# Altium integrated library Vishay Roederstein Electrolytic Snap-In Pins Capacitor.IntLib: 936 symbols (part 5 of 16)
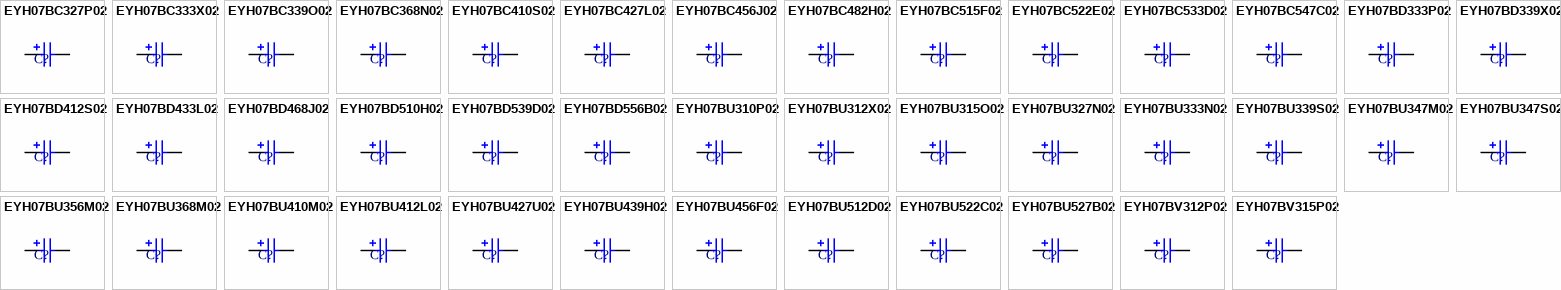
[diagram p27: symbols EYH07BC327P02 to EYH07BV315P02]

## EYH07BC327P02
designator C?
Aluminum Electrolytic Capacitor, Power Capacitor Style EYH, Snap-in 6mm Solder Pins: 270uF, 450V; PCB_Layout: Complies with Manufacturer's Recommendation.; DrillSize: Nominal, Complies with Manufacturer's Recommendation.; Published: 19-Mar-2004; DatasheetDocument: 14-Feb-2002; PackageReference: CAPPRS10-30X45; Publisher: Altium Limited; ComponentLink1Description: Manufacturer Link; ComponentLink1URL: http://www.vishay.com/; ComponentLink2Description: Datasheet; ComponentLink2URL: http://www.vishay.com/docs/25139/eyh.pdf; Value: 270uF
footprint CAPPRS10-30X45 (Capacitor, Electrolytic, Radial, Snap-In Pins; Body 30 x 45 mm (Dia.xH typ); Pin Spacing 10 mm (typ))
simulation model CAP (Capacitor)
signal-integrity model EYH07BC327P02
pins: 1, 2
1 alternate drawing of the same symbol

## EYH07BC333X02
designator C?
Aluminum Electrolytic Capacitor, Power Capacitor Style EYH, Snap-in 6mm Solder Pins: 330uF, 400V; PCB_Layout: Complies with Manufacturer's Recommendation.; DrillSize: Nominal, Complies with Manufacturer's Recommendation.; Published: 19-Mar-2004; DatasheetDocument: 14-Feb-2002; PackageReference: CAPPRS10-30X45; Publisher: Altium Limited; ComponentLink1Description: Manufacturer Link; ComponentLink1URL: http://www.vishay.com/; ComponentLink2Description: Datasheet; ComponentLink2URL: http://www.vishay.com/docs/25139/eyh.pdf; Value: 330uF
footprint CAPPRS10-30X45 (Capacitor, Electrolytic, Radial, Snap-In Pins; Body 30 x 45 mm (Dia.xH typ); Pin Spacing 10 mm (typ))
simulation model CAP (Capacitor)
signal-integrity model EYH07BC333X02
pins: 1, 2
1 alternate drawing of the same symbol

## EYH07BC339O02
designator C?
Aluminum Electrolytic Capacitor, Power Capacitor Style EYH, Snap-in 6mm Solder Pins: 390uF, 350V; PCB_Layout: Complies with Manufacturer's Recommendation.; DrillSize: Nominal, Complies with Manufacturer's Recommendation.; Published: 19-Mar-2004; DatasheetDocument: 14-Feb-2002; PackageReference: CAPPRS10-30X45; Publisher: Altium Limited; ComponentLink1Description: Manufacturer Link; ComponentLink1URL: http://www.vishay.com/; ComponentLink2Description: Datasheet; ComponentLink2URL: http://www.vishay.com/docs/25139/eyh.pdf; Value: 390uF
footprint CAPPRS10-30X45 (Capacitor, Electrolytic, Radial, Snap-In Pins; Body 30 x 45 mm (Dia.xH typ); Pin Spacing 10 mm (typ))
simulation model CAP (Capacitor)
signal-integrity model EYH07BC339O02
pins: 1, 2
1 alternate drawing of the same symbol

## EYH07BC368N02
designator C?
Aluminum Electrolytic Capacitor, Power Capacitor Style EYH, Snap-in 6mm Solder Pins: 680uF, 250V; PCB_Layout: Complies with Manufacturer's Recommendation.; DrillSize: Nominal, Complies with Manufacturer's Recommendation.; Published: 19-Mar-2004; DatasheetDocument: 14-Feb-2002; PackageReference: CAPPRS10-30X45; Publisher: Altium Limited; ComponentLink1Description: Manufacturer Link; ComponentLink1URL: http://www.vishay.com/; ComponentLink2Description: Datasheet; ComponentLink2URL: http://www.vishay.com/docs/25139/eyh.pdf; Value: 680uF
footprint CAPPRS10-30X45 (Capacitor, Electrolytic, Radial, Snap-In Pins; Body 30 x 45 mm (Dia.xH typ); Pin Spacing 10 mm (typ))
simulation model CAP (Capacitor)
signal-integrity model EYH07BC368N02
pins: 1, 2
1 alternate drawing of the same symbol

## EYH07BC410S02
designator C?
Aluminum Electrolytic Capacitor, Power Capacitor Style EYH, Snap-in 6mm Solder Pins: 1000uF, 200V; PCB_Layout: Complies with Manufacturer's Recommendation.; DrillSize: Nominal, Complies with Manufacturer's Recommendation.; Published: 19-Mar-2004; DatasheetDocument: 14-Feb-2002; PackageReference: CAPPRS10-30X45; Publisher: Altium Limited; ComponentLink1Description: Manufacturer Link; ComponentLink1URL: http://www.vishay.com/; ComponentLink2Description: Datasheet; ComponentLink2URL: http://www.vishay.com/docs/25139/eyh.pdf; Value: 1000uF
footprint CAPPRS10-30X45 (Capacitor, Electrolytic, Radial, Snap-In Pins; Body 30 x 45 mm (Dia.xH typ); Pin Spacing 10 mm (typ))
simulation model CAP (Capacitor)
signal-integrity model EYH07BC410S02
pins: 1, 2
1 alternate drawing of the same symbol

## EYH07BC427L02
designator C?
Aluminum Electrolytic Capacitor, Power Capacitor Style EYH, Snap-in 6mm Solder Pins: 2700uF, 100V; PCB_Layout: Complies with Manufacturer's Recommendation.; DrillSize: Nominal, Complies with Manufacturer's Recommendation.; Published: 19-Mar-2004; DatasheetDocument: 14-Feb-2002; PackageReference: CAPPRS10-30X45; Publisher: Altium Limited; ComponentLink1Description: Manufacturer Link; ComponentLink1URL: http://www.vishay.com/; ComponentLink2Description: Datasheet; ComponentLink2URL: http://www.vishay.com/docs/25139/eyh.pdf; Value: 2700uF
footprint CAPPRS10-30X45 (Capacitor, Electrolytic, Radial, Snap-In Pins; Body 30 x 45 mm (Dia.xH typ); Pin Spacing 10 mm (typ))
simulation model CAP (Capacitor)
signal-integrity model EYH07BC427L02
pins: 1, 2
1 alternate drawing of the same symbol

## EYH07BC456J02
designator C?
Aluminum Electrolytic Capacitor, Power Capacitor Style EYH, Snap-in 6mm Solder Pins: 5600uF, 63V; PCB_Layout: Complies with Manufacturer's Recommendation.; DrillSize: Nominal, Complies with Manufacturer's Recommendation.; Published: 19-Mar-2004; DatasheetDocument: 14-Feb-2002; PackageReference: CAPPRS10-30X45; Publisher: Altium Limited; ComponentLink1Description: Manufacturer Link; ComponentLink1URL: http://www.vishay.com/; ComponentLink2Description: Datasheet; ComponentLink2URL: http://www.vishay.com/docs/25139/eyh.pdf; Value: 5600uF
footprint CAPPRS10-30X45 (Capacitor, Electrolytic, Radial, Snap-In Pins; Body 30 x 45 mm (Dia.xH typ); Pin Spacing 10 mm (typ))
simulation model CAP (Capacitor)
signal-integrity model EYH07BC456J02
pins: 1, 2
1 alternate drawing of the same symbol

## EYH07BC482H02
designator C?
Aluminum Electrolytic Capacitor, Power Capacitor Style EYH, Snap-in 6mm Solder Pins: 8200uF, 50V; PCB_Layout: Complies with Manufacturer's Recommendation.; DrillSize: Nominal, Complies with Manufacturer's Recommendation.; Published: 19-Mar-2004; DatasheetDocument: 14-Feb-2002; PackageReference: CAPPRS10-30X45; Publisher: Altium Limited; ComponentLink1Description: Manufacturer Link; ComponentLink1URL: http://www.vishay.com/; ComponentLink2Description: Datasheet; ComponentLink2URL: http://www.vishay.com/docs/25139/eyh.pdf; Value: 8200uF
footprint CAPPRS10-30X45 (Capacitor, Electrolytic, Radial, Snap-In Pins; Body 30 x 45 mm (Dia.xH typ); Pin Spacing 10 mm (typ))
simulation model CAP (Capacitor)
signal-integrity model EYH07BC482H02
pins: 1, 2
1 alternate drawing of the same symbol

## EYH07BC515F02
designator C?
Aluminum Electrolytic Capacitor, Power Capacitor Style EYH, Snap-in 6mm Solder Pins: 15000uF, 35V; PCB_Layout: Complies with Manufacturer's Recommendation.; DrillSize: Nominal, Complies with Manufacturer's Recommendation.; Published: 19-Mar-2004; DatasheetDocument: 14-Feb-2002; PackageReference: CAPPRS10-30X45; Publisher: Altium Limited; ComponentLink1Description: Manufacturer Link; ComponentLink1URL: http://www.vishay.com/; ComponentLink2Description: Datasheet; ComponentLink2URL: http://www.vishay.com/docs/25139/eyh.pdf; Value: 15000uF
footprint CAPPRS10-30X45 (Capacitor, Electrolytic, Radial, Snap-In Pins; Body 30 x 45 mm (Dia.xH typ); Pin Spacing 10 mm (typ))
simulation model CAP (Capacitor)
signal-integrity model EYH07BC515F02
pins: 1, 2
1 alternate drawing of the same symbol

## EYH07BC522E02
designator C?
Aluminum Electrolytic Capacitor, Power Capacitor Style EYH, Snap-in 6mm Solder Pins: 22000uF, 25V; PCB_Layout: Complies with Manufacturer's Recommendation.; DrillSize: Nominal, Complies with Manufacturer's Recommendation.; Published: 19-Mar-2004; DatasheetDocument: 14-Feb-2002; PackageReference: CAPPRS10-30X45; Publisher: Altium Limited; ComponentLink1Description: Manufacturer Link; ComponentLink1URL: http://www.vishay.com/; ComponentLink2Description: Datasheet; ComponentLink2URL: http://www.vishay.com/docs/25139/eyh.pdf; Value: 22000uF
footprint CAPPRS10-30X45 (Capacitor, Electrolytic, Radial, Snap-In Pins; Body 30 x 45 mm (Dia.xH typ); Pin Spacing 10 mm (typ))
simulation model CAP (Capacitor)
signal-integrity model EYH07BC522E02
pins: 1, 2
1 alternate drawing of the same symbol

## EYH07BC533D02
designator C?
Aluminum Electrolytic Capacitor, Power Capacitor Style EYH, Snap-in 6mm Solder Pins: 33000uF, 16V; PCB_Layout: Complies with Manufacturer's Recommendation.; DrillSize: Nominal, Complies with Manufacturer's Recommendation.; Published: 19-Mar-2004; DatasheetDocument: 14-Feb-2002; PackageReference: CAPPRS10-30X45; Publisher: Altium Limited; ComponentLink1Description: Manufacturer Link; ComponentLink1URL: http://www.vishay.com/; ComponentLink2Description: Datasheet; ComponentLink2URL: http://www.vishay.com/docs/25139/eyh.pdf; Value: 33000uF
footprint CAPPRS10-30X45 (Capacitor, Electrolytic, Radial, Snap-In Pins; Body 30 x 45 mm (Dia.xH typ); Pin Spacing 10 mm (typ))
simulation model CAP (Capacitor)
signal-integrity model EYH07BC533D02
pins: 1, 2
1 alternate drawing of the same symbol

## EYH07BC547C02
designator C?
Aluminum Electrolytic Capacitor, Power Capacitor Style EYH, Snap-in 6mm Solder Pins: 47000uF, 10V; PCB_Layout: Complies with Manufacturer's Recommendation.; DrillSize: Nominal, Complies with Manufacturer's Recommendation.; Published: 19-Mar-2004; DatasheetDocument: 14-Feb-2002; PackageReference: CAPPRS10-30X45; Publisher: Altium Limited; ComponentLink1Description: Manufacturer Link; ComponentLink1URL: http://www.vishay.com/; ComponentLink2Description: Datasheet; ComponentLink2URL: http://www.vishay.com/docs/25139/eyh.pdf; Value: 47000uF
footprint CAPPRS10-30X45 (Capacitor, Electrolytic, Radial, Snap-In Pins; Body 30 x 45 mm (Dia.xH typ); Pin Spacing 10 mm (typ))
simulation model CAP (Capacitor)
signal-integrity model EYH07BC547C02
pins: 1, 2
1 alternate drawing of the same symbol

## EYH07BD333P02
designator C?
Aluminum Electrolytic Capacitor, Power Capacitor Style EYH, Snap-in 6mm Solder Pins: 330uF, 450V; PCB_Layout: Complies with Manufacturer's Recommendation.; DrillSize: Nominal, Complies with Manufacturer's Recommendation.; Published: 19-Mar-2004; DatasheetDocument: 14-Feb-2002; PackageReference: CAPPRS10-30X50; Publisher: Altium Limited; ComponentLink1Description: Manufacturer Link; ComponentLink1URL: http://www.vishay.com/; ComponentLink2Description: Datasheet; ComponentLink2URL: http://www.vishay.com/docs/25139/eyh.pdf; Value: 330uF
footprint CAPPRS10-30X50 (Capacitor, Electrolytic, Radial, Snap-In Pins; Body 30 x 50 mm (Dia.xH typ); Pin Spacing 10 mm (typ))
simulation model CAP (Capacitor)
signal-integrity model EYH07BD333P02
pins: 1, 2
1 alternate drawing of the same symbol

## EYH07BD339X02
designator C?
Aluminum Electrolytic Capacitor, Power Capacitor Style EYH, Snap-in 6mm Solder Pins: 390uF, 400V; PCB_Layout: Complies with Manufacturer's Recommendation.; DrillSize: Nominal, Complies with Manufacturer's Recommendation.; Published: 19-Mar-2004; DatasheetDocument: 14-Feb-2002; PackageReference: CAPPRS10-30X50; Publisher: Altium Limited; ComponentLink1Description: Manufacturer Link; ComponentLink1URL: http://www.vishay.com/; ComponentLink2Description: Datasheet; ComponentLink2URL: http://www.vishay.com/docs/25139/eyh.pdf; Value: 390uF
footprint CAPPRS10-30X50 (Capacitor, Electrolytic, Radial, Snap-In Pins; Body 30 x 50 mm (Dia.xH typ); Pin Spacing 10 mm (typ))
simulation model CAP (Capacitor)
signal-integrity model EYH07BD339X02
pins: 1, 2
1 alternate drawing of the same symbol

## EYH07BD412S02
designator C?
Aluminum Electrolytic Capacitor, Power Capacitor Style EYH, Snap-in 6mm Solder Pins: 1200uF, 200V; PCB_Layout: Complies with Manufacturer's Recommendation.; DrillSize: Nominal, Complies with Manufacturer's Recommendation.; Published: 19-Mar-2004; DatasheetDocument: 14-Feb-2002; PackageReference: CAPPRS10-30X50; Publisher: Altium Limited; ComponentLink1Description: Manufacturer Link; ComponentLink1URL: http://www.vishay.com/; ComponentLink2Description: Datasheet; ComponentLink2URL: http://www.vishay.com/docs/25139/eyh.pdf; Value: 1200uF
footprint CAPPRS10-30X50 (Capacitor, Electrolytic, Radial, Snap-In Pins; Body 30 x 50 mm (Dia.xH typ); Pin Spacing 10 mm (typ))
simulation model CAP (Capacitor)
signal-integrity model EYH07BD412S02
pins: 1, 2
1 alternate drawing of the same symbol

## EYH07BD433L02
designator C?
Aluminum Electrolytic Capacitor, Power Capacitor Style EYH, Snap-in 6mm Solder Pins: 3300uF, 100V; PCB_Layout: Complies with Manufacturer's Recommendation.; DrillSize: Nominal, Complies with Manufacturer's Recommendation.; Published: 19-Mar-2004; DatasheetDocument: 14-Feb-2002; PackageReference: CAPPRS10-30X50; Publisher: Altium Limited; ComponentLink1Description: Manufacturer Link; ComponentLink1URL: http://www.vishay.com/; ComponentLink2Description: Datasheet; ComponentLink2URL: http://www.vishay.com/docs/25139/eyh.pdf; Value: 3300uF
footprint CAPPRS10-30X50 (Capacitor, Electrolytic, Radial, Snap-In Pins; Body 30 x 50 mm (Dia.xH typ); Pin Spacing 10 mm (typ))
simulation model CAP (Capacitor)
signal-integrity model EYH07BD433L02
pins: 1, 2
1 alternate drawing of the same symbol

## EYH07BD468J02
designator C?
Aluminum Electrolytic Capacitor, Power Capacitor Style EYH, Snap-in 6mm Solder Pins: 6800uF, 63V; PCB_Layout: Complies with Manufacturer's Recommendation.; DrillSize: Nominal, Complies with Manufacturer's Recommendation.; Published: 19-Mar-2004; DatasheetDocument: 14-Feb-2002; PackageReference: CAPPRS10-30X50; Publisher: Altium Limited; ComponentLink1Description: Manufacturer Link; ComponentLink1URL: http://www.vishay.com/; ComponentLink2Description: Datasheet; ComponentLink2URL: http://www.vishay.com/docs/25139/eyh.pdf; Value: 6800uF
footprint CAPPRS10-30X50 (Capacitor, Electrolytic, Radial, Snap-In Pins; Body 30 x 50 mm (Dia.xH typ); Pin Spacing 10 mm (typ))
simulation model CAP (Capacitor)
signal-integrity model EYH07BD468J02
pins: 1, 2
1 alternate drawing of the same symbol

## EYH07BD510H02
designator C?
Aluminum Electrolytic Capacitor, Power Capacitor Style EYH, Snap-in 6mm Solder Pins: 10000uF, 50V; PCB_Layout: Complies with Manufacturer's Recommendation.; DrillSize: Nominal, Complies with Manufacturer's Recommendation.; Published: 19-Mar-2004; DatasheetDocument: 14-Feb-2002; PackageReference: CAPPRS10-30X50; Publisher: Altium Limited; ComponentLink1Description: Manufacturer Link; ComponentLink1URL: http://www.vishay.com/; ComponentLink2Description: Datasheet; ComponentLink2URL: http://www.vishay.com/docs/25139/eyh.pdf; Value: 10000uF
footprint CAPPRS10-30X50 (Capacitor, Electrolytic, Radial, Snap-In Pins; Body 30 x 50 mm (Dia.xH typ); Pin Spacing 10 mm (typ))
simulation model CAP (Capacitor)
signal-integrity model EYH07BD510H02
pins: 1, 2
1 alternate drawing of the same symbol

## EYH07BD539D02
designator C?
Aluminum Electrolytic Capacitor, Power Capacitor Style EYH, Snap-in 6mm Solder Pins: 39000uF, 16V; PCB_Layout: Complies with Manufacturer's Recommendation.; DrillSize: Nominal, Complies with Manufacturer's Recommendation.; Published: 19-Mar-2004; DatasheetDocument: 14-Feb-2002; PackageReference: CAPPRS10-30X50; Publisher: Altium Limited; ComponentLink1Description: Manufacturer Link; ComponentLink1URL: http://www.vishay.com/; ComponentLink2Description: Datasheet; ComponentLink2URL: http://www.vishay.com/docs/25139/eyh.pdf; Value: 39000uF
footprint CAPPRS10-30X50 (Capacitor, Electrolytic, Radial, Snap-In Pins; Body 30 x 50 mm (Dia.xH typ); Pin Spacing 10 mm (typ))
simulation model CAP (Capacitor)
signal-integrity model EYH07BD539D02
pins: 1, 2
1 alternate drawing of the same symbol

## EYH07BD556B02
designator C?
Aluminum Electrolytic Capacitor, Power Capacitor Style EYH, Snap-in 6mm Solder Pins: 56000uF, 6.3V; PCB_Layout: Complies with Manufacturer's Recommendation.; DrillSize: Nominal, Complies with Manufacturer's Recommendation.; Published: 19-Mar-2004; DatasheetDocument: 14-Feb-2002; PackageReference: CAPPRS10-30X50; Publisher: Altium Limited; ComponentLink1Description: Manufacturer Link; ComponentLink1URL: http://www.vishay.com/; ComponentLink2Description: Datasheet; ComponentLink2URL: http://www.vishay.com/docs/25139/eyh.pdf; Value: 56000uF
footprint CAPPRS10-30X50 (Capacitor, Electrolytic, Radial, Snap-In Pins; Body 30 x 50 mm (Dia.xH typ); Pin Spacing 10 mm (typ))
simulation model CAP (Capacitor)
signal-integrity model EYH07BD556B02
pins: 1, 2
1 alternate drawing of the same symbol

## EYH07BU310P02
designator C?
Aluminum Electrolytic Capacitor, Power Capacitor Style EYH, Snap-in 6mm Solder Pins: 100uF, 450V; PCB_Layout: Complies with Manufacturer's Recommendation.; DrillSize: Nominal, Complies with Manufacturer's Recommendation.; Published: 19-Mar-2004; DatasheetDocument: 14-Feb-2002; PackageReference: CAPPRS10-30X25; Publisher: Altium Limited; ComponentLink1Description: Manufacturer Link; ComponentLink1URL: http://www.vishay.com/; ComponentLink2Description: Datasheet; ComponentLink2URL: http://www.vishay.com/docs/25139/eyh.pdf; Value: 100uF
footprint CAPPRS10-30X25 (Capacitor, Electrolytic, Radial, Snap-In Pins; Body 30 x 25 mm (Dia.xH typ); Pin Spacing 10 mm (typ))
simulation model CAP (Capacitor)
signal-integrity model EYH07BU310P02
pins: 1, 2
1 alternate drawing of the same symbol

## EYH07BU312X02
designator C?
Aluminum Electrolytic Capacitor, Power Capacitor Style EYH, Snap-in 6mm Solder Pins: 120uF, 400V; PCB_Layout: Complies with Manufacturer's Recommendation.; DrillSize: Nominal, Complies with Manufacturer's Recommendation.; Published: 19-Mar-2004; DatasheetDocument: 14-Feb-2002; PackageReference: CAPPRS10-30X25; Publisher: Altium Limited; ComponentLink1Description: Manufacturer Link; ComponentLink1URL: http://www.vishay.com/; ComponentLink2Description: Datasheet; ComponentLink2URL: http://www.vishay.com/docs/25139/eyh.pdf; Value: 120uF
footprint CAPPRS10-30X25 (Capacitor, Electrolytic, Radial, Snap-In Pins; Body 30 x 25 mm (Dia.xH typ); Pin Spacing 10 mm (typ))
simulation model CAP (Capacitor)
signal-integrity model EYH07BU312X02
pins: 1, 2
1 alternate drawing of the same symbol

## EYH07BU315O02
designator C?
Aluminum Electrolytic Capacitor, Power Capacitor Style EYH, Snap-in 6mm Solder Pins: 150uF, 350V; PCB_Layout: Complies with Manufacturer's Recommendation.; DrillSize: Nominal, Complies with Manufacturer's Recommendation.; Published: 19-Mar-2004; DatasheetDocument: 14-Feb-2002; PackageReference: CAPPRS10-30X25; Publisher: Altium Limited; ComponentLink1Description: Manufacturer Link; ComponentLink1URL: http://www.vishay.com/; ComponentLink2Description: Datasheet; ComponentLink2URL: http://www.vishay.com/docs/25139/eyh.pdf; Value: 150uF
footprint CAPPRS10-30X25 (Capacitor, Electrolytic, Radial, Snap-In Pins; Body 30 x 25 mm (Dia.xH typ); Pin Spacing 10 mm (typ))
simulation model CAP (Capacitor)
signal-integrity model EYH07BU315O02
pins: 1, 2
1 alternate drawing of the same symbol

## EYH07BU327N02
designator C?
Aluminum Electrolytic Capacitor, Power Capacitor Style EYH, Snap-in 6mm Solder Pins: 270uF, 250V; PCB_Layout: Complies with Manufacturer's Recommendation.; DrillSize: Nominal, Complies with Manufacturer's Recommendation.; Published: 19-Mar-2004; DatasheetDocument: 14-Feb-2002; PackageReference: CAPPRS10-30X25; Publisher: Altium Limited; ComponentLink1Description: Manufacturer Link; ComponentLink1URL: http://www.vishay.com/; ComponentLink2Description: Datasheet; ComponentLink2URL: http://www.vishay.com/docs/25139/eyh.pdf; Value: 270uF
footprint CAPPRS10-30X25 (Capacitor, Electrolytic, Radial, Snap-In Pins; Body 30 x 25 mm (Dia.xH typ); Pin Spacing 10 mm (typ))
simulation model CAP (Capacitor)
signal-integrity model EYH07BU327N02
pins: 1, 2
1 alternate drawing of the same symbol

## EYH07BU333N02
designator C?
Aluminum Electrolytic Capacitor, Power Capacitor Style EYH, Snap-in 6mm Solder Pins: 330uF, 250V; PCB_Layout: Complies with Manufacturer's Recommendation.; DrillSize: Nominal, Complies with Manufacturer's Recommendation.; Published: 19-Mar-2004; DatasheetDocument: 14-Feb-2002; PackageReference: CAPPRS10-30X25; Publisher: Altium Limited; ComponentLink1Description: Manufacturer Link; ComponentLink1URL: http://www.vishay.com/; ComponentLink2Description: Datasheet; ComponentLink2URL: http://www.vishay.com/docs/25139/eyh.pdf; Value: 330uF
footprint CAPPRS10-30X25 (Capacitor, Electrolytic, Radial, Snap-In Pins; Body 30 x 25 mm (Dia.xH typ); Pin Spacing 10 mm (typ))
simulation model CAP (Capacitor)
signal-integrity model EYH07BU333N02
pins: 1, 2
1 alternate drawing of the same symbol

## EYH07BU339S02
designator C?
Aluminum Electrolytic Capacitor, Power Capacitor Style EYH, Snap-in 6mm Solder Pins: 390uF, 200V; PCB_Layout: Complies with Manufacturer's Recommendation.; DrillSize: Nominal, Complies with Manufacturer's Recommendation.; Published: 19-Mar-2004; DatasheetDocument: 14-Feb-2002; PackageReference: CAPPRS10-30X25; Publisher: Altium Limited; ComponentLink1Description: Manufacturer Link; ComponentLink1URL: http://www.vishay.com/; ComponentLink2Description: Datasheet; ComponentLink2URL: http://www.vishay.com/docs/25139/eyh.pdf; Value: 390uF
footprint CAPPRS10-30X25 (Capacitor, Electrolytic, Radial, Snap-In Pins; Body 30 x 25 mm (Dia.xH typ); Pin Spacing 10 mm (typ))
simulation model CAP (Capacitor)
signal-integrity model EYH07BU339S02
pins: 1, 2
1 alternate drawing of the same symbol

## EYH07BU347M02
designator C?
Aluminum Electrolytic Capacitor, Power Capacitor Style EYH, Snap-in 6mm Solder Pins: 470uF, 160V; PCB_Layout: Complies with Manufacturer's Recommendation.; DrillSize: Nominal, Complies with Manufacturer's Recommendation.; Published: 19-Mar-2004; DatasheetDocument: 14-Feb-2002; PackageReference: CAPPRS10-30X25; Publisher: Altium Limited; ComponentLink1Description: Manufacturer Link; ComponentLink1URL: http://www.vishay.com/; ComponentLink2Description: Datasheet; ComponentLink2URL: http://www.vishay.com/docs/25139/eyh.pdf; Value: 470uF
footprint CAPPRS10-30X25 (Capacitor, Electrolytic, Radial, Snap-In Pins; Body 30 x 25 mm (Dia.xH typ); Pin Spacing 10 mm (typ))
simulation model CAP (Capacitor)
signal-integrity model EYH07BU347M02
pins: 1, 2
1 alternate drawing of the same symbol

## EYH07BU347S02
designator C?
Aluminum Electrolytic Capacitor, Power Capacitor Style EYH, Snap-in 6mm Solder Pins: 470uF, 200V; PCB_Layout: Complies with Manufacturer's Recommendation.; DrillSize: Nominal, Complies with Manufacturer's Recommendation.; Published: 19-Mar-2004; DatasheetDocument: 14-Feb-2002; PackageReference: CAPPRS10-30X25; Publisher: Altium Limited; ComponentLink1Description: Manufacturer Link; ComponentLink1URL: http://www.vishay.com/; ComponentLink2Description: Datasheet; ComponentLink2URL: http://www.vishay.com/docs/25139/eyh.pdf; Value: 470uF
footprint CAPPRS10-30X25 (Capacitor, Electrolytic, Radial, Snap-In Pins; Body 30 x 25 mm (Dia.xH typ); Pin Spacing 10 mm (typ))
simulation model CAP (Capacitor)
signal-integrity model EYH07BU347S02
pins: 1, 2
1 alternate drawing of the same symbol

## EYH07BU356M02
designator C?
Aluminum Electrolytic Capacitor, Power Capacitor Style EYH, Snap-in 6mm Solder Pins: 560uF, 160V; PCB_Layout: Complies with Manufacturer's Recommendation.; DrillSize: Nominal, Complies with Manufacturer's Recommendation.; Published: 19-Mar-2004; DatasheetDocument: 14-Feb-2002; PackageReference: CAPPRS10-30X25; Publisher: Altium Limited; ComponentLink1Description: Manufacturer Link; ComponentLink1URL: http://www.vishay.com/; ComponentLink2Description: Datasheet; ComponentLink2URL: http://www.vishay.com/docs/25139/eyh.pdf; Value: 560uF
footprint CAPPRS10-30X25 (Capacitor, Electrolytic, Radial, Snap-In Pins; Body 30 x 25 mm (Dia.xH typ); Pin Spacing 10 mm (typ))
simulation model CAP (Capacitor)
signal-integrity model EYH07BU356M02
pins: 1, 2
1 alternate drawing of the same symbol

## EYH07BU368M02
designator C?
Aluminum Electrolytic Capacitor, Power Capacitor Style EYH, Snap-in 6mm Solder Pins: 680uF, 160V; PCB_Layout: Complies with Manufacturer's Recommendation.; DrillSize: Nominal, Complies with Manufacturer's Recommendation.; Published: 19-Mar-2004; DatasheetDocument: 14-Feb-2002; PackageReference: CAPPRS10-30X25; Publisher: Altium Limited; ComponentLink1Description: Manufacturer Link; ComponentLink1URL: http://www.vishay.com/; ComponentLink2Description: Datasheet; ComponentLink2URL: http://www.vishay.com/docs/25139/eyh.pdf; Value: 680uF
footprint CAPPRS10-30X25 (Capacitor, Electrolytic, Radial, Snap-In Pins; Body 30 x 25 mm (Dia.xH typ); Pin Spacing 10 mm (typ))
simulation model CAP (Capacitor)
signal-integrity model EYH07BU368M02
pins: 1, 2
1 alternate drawing of the same symbol

## EYH07BU410M02
designator C?
Aluminum Electrolytic Capacitor, Power Capacitor Style EYH, Snap-in 6mm Solder Pins: 1000uF, 160V; PCB_Layout: Complies with Manufacturer's Recommendation.; DrillSize: Nominal, Complies with Manufacturer's Recommendation.; Published: 19-Mar-2004; DatasheetDocument: 14-Feb-2002; PackageReference: CAPPRS10-30X25; Publisher: Altium Limited; ComponentLink1Description: Manufacturer Link; ComponentLink1URL: http://www.vishay.com/; ComponentLink2Description: Datasheet; ComponentLink2URL: http://www.vishay.com/docs/25139/eyh.pdf; Value: 1000uF
footprint CAPPRS10-30X25 (Capacitor, Electrolytic, Radial, Snap-In Pins; Body 30 x 25 mm (Dia.xH typ); Pin Spacing 10 mm (typ))
simulation model CAP (Capacitor)
signal-integrity model EYH07BU410M02
pins: 1, 2
1 alternate drawing of the same symbol

## EYH07BU412L02
designator C?
Aluminum Electrolytic Capacitor, Power Capacitor Style EYH, Snap-in 6mm Solder Pins: 1200uF, 100V; PCB_Layout: Complies with Manufacturer's Recommendation.; DrillSize: Nominal, Complies with Manufacturer's Recommendation.; Published: 19-Mar-2004; DatasheetDocument: 14-Feb-2002; PackageReference: CAPPRS10-30X25; Publisher: Altium Limited; ComponentLink1Description: Manufacturer Link; ComponentLink1URL: http://www.vishay.com/; ComponentLink2Description: Datasheet; ComponentLink2URL: http://www.vishay.com/docs/25139/eyh.pdf; Value: 1200uF
footprint CAPPRS10-30X25 (Capacitor, Electrolytic, Radial, Snap-In Pins; Body 30 x 25 mm (Dia.xH typ); Pin Spacing 10 mm (typ))
simulation model CAP (Capacitor)
signal-integrity model EYH07BU412L02
pins: 1, 2
1 alternate drawing of the same symbol

## EYH07BU427U02
designator C?
Aluminum Electrolytic Capacitor, Power Capacitor Style EYH, Snap-in 6mm Solder Pins: 2700uF, 63V; PCB_Layout: Complies with Manufacturer's Recommendation.; DrillSize: Nominal, Complies with Manufacturer's Recommendation.; Published: 19-Mar-2004; DatasheetDocument: 14-Feb-2002; PackageReference: CAPPRS10-30X25; Publisher: Altium Limited; ComponentLink1Description: Manufacturer Link; ComponentLink1URL: http://www.vishay.com/; ComponentLink2Description: Datasheet; ComponentLink2URL: http://www.vishay.com/docs/25139/eyh.pdf; Value: 2700uF
footprint CAPPRS10-30X25 (Capacitor, Electrolytic, Radial, Snap-In Pins; Body 30 x 25 mm (Dia.xH typ); Pin Spacing 10 mm (typ))
simulation model CAP (Capacitor)
signal-integrity model EYH07BU427U02
pins: 1, 2
1 alternate drawing of the same symbol

## EYH07BU439H02
designator C?
Aluminum Electrolytic Capacitor, Power Capacitor Style EYH, Snap-in 6mm Solder Pins: 3900uF, 50V; PCB_Layout: Complies with Manufacturer's Recommendation.; DrillSize: Nominal, Complies with Manufacturer's Recommendation.; Published: 19-Mar-2004; DatasheetDocument: 14-Feb-2002; PackageReference: CAPPRS10-30X25; Publisher: Altium Limited; ComponentLink1Description: Manufacturer Link; ComponentLink1URL: http://www.vishay.com/; ComponentLink2Description: Datasheet; ComponentLink2URL: http://www.vishay.com/docs/25139/eyh.pdf; Value: 3900uF
footprint CAPPRS10-30X25 (Capacitor, Electrolytic, Radial, Snap-In Pins; Body 30 x 25 mm (Dia.xH typ); Pin Spacing 10 mm (typ))
simulation model CAP (Capacitor)
signal-integrity model EYH07BU439H02
pins: 1, 2
1 alternate drawing of the same symbol

## EYH07BU456F02
designator C?
Aluminum Electrolytic Capacitor, Power Capacitor Style EYH, Snap-in 6mm Solder Pins: 5600uF, 35V; PCB_Layout: Complies with Manufacturer's Recommendation.; DrillSize: Nominal, Complies with Manufacturer's Recommendation.; Published: 19-Mar-2004; DatasheetDocument: 14-Feb-2002; PackageReference: CAPPRS10-30X25; Publisher: Altium Limited; ComponentLink1Description: Manufacturer Link; ComponentLink1URL: http://www.vishay.com/; ComponentLink2Description: Datasheet; ComponentLink2URL: http://www.vishay.com/docs/25139/eyh.pdf; Value: 5600uF
footprint CAPPRS10-30X25 (Capacitor, Electrolytic, Radial, Snap-In Pins; Body 30 x 25 mm (Dia.xH typ); Pin Spacing 10 mm (typ))
simulation model CAP (Capacitor)
signal-integrity model EYH07BU456F02
pins: 1, 2
1 alternate drawing of the same symbol

## EYH07BU512D02
designator C?
Aluminum Electrolytic Capacitor, Power Capacitor Style EYH, Snap-in 6mm Solder Pins: 12000uF, 16V; PCB_Layout: Complies with Manufacturer's Recommendation.; DrillSize: Nominal, Complies with Manufacturer's Recommendation.; Published: 19-Mar-2004; DatasheetDocument: 14-Feb-2002; PackageReference: CAPPRS10-30X25; Publisher: Altium Limited; ComponentLink1Description: Manufacturer Link; ComponentLink1URL: http://www.vishay.com/; ComponentLink2Description: Datasheet; ComponentLink2URL: http://www.vishay.com/docs/25139/eyh.pdf; Value: 12000uF
footprint CAPPRS10-30X25 (Capacitor, Electrolytic, Radial, Snap-In Pins; Body 30 x 25 mm (Dia.xH typ); Pin Spacing 10 mm (typ))
simulation model CAP (Capacitor)
signal-integrity model EYH07BU512D02
pins: 1, 2
1 alternate drawing of the same symbol

## EYH07BU522C02
designator C?
Aluminum Electrolytic Capacitor, Power Capacitor Style EYH, Snap-in 6mm Solder Pins: 22000uF, 10V; PCB_Layout: Complies with Manufacturer's Recommendation.; DrillSize: Nominal, Complies with Manufacturer's Recommendation.; Published: 19-Mar-2004; DatasheetDocument: 14-Feb-2002; PackageReference: CAPPRS10-30X25; Publisher: Altium Limited; ComponentLink1Description: Manufacturer Link; ComponentLink1URL: http://www.vishay.com/; ComponentLink2Description: Datasheet; ComponentLink2URL: http://www.vishay.com/docs/25139/eyh.pdf; Value: 22000uF
footprint CAPPRS10-30X25 (Capacitor, Electrolytic, Radial, Snap-In Pins; Body 30 x 25 mm (Dia.xH typ); Pin Spacing 10 mm (typ))
simulation model CAP (Capacitor)
signal-integrity model EYH07BU522C02
pins: 1, 2
1 alternate drawing of the same symbol

## EYH07BU527B02
designator C?
Aluminum Electrolytic Capacitor, Power Capacitor Style EYH, Snap-in 6mm Solder Pins: 27000uF, 6.3V; PCB_Layout: Complies with Manufacturer's Recommendation.; DrillSize: Nominal, Complies with Manufacturer's Recommendation.; Published: 19-Mar-2004; DatasheetDocument: 14-Feb-2002; PackageReference: CAPPRS10-30X25; Publisher: Altium Limited; ComponentLink1Description: Manufacturer Link; ComponentLink1URL: http://www.vishay.com/; ComponentLink2Description: Datasheet; ComponentLink2URL: http://www.vishay.com/docs/25139/eyh.pdf; Value: 27000uF
footprint CAPPRS10-30X25 (Capacitor, Electrolytic, Radial, Snap-In Pins; Body 30 x 25 mm (Dia.xH typ); Pin Spacing 10 mm (typ))
simulation model CAP (Capacitor)
signal-integrity model EYH07BU527B02
pins: 1, 2
1 alternate drawing of the same symbol

## EYH07BV312P02
designator C?
Aluminum Electrolytic Capacitor, Power Capacitor Style EYH, Snap-in 6mm Solder Pins: 120uF, 450V; PCB_Layout: Complies with Manufacturer's Recommendation.; DrillSize: Nominal, Complies with Manufacturer's Recommendation.; Published: 19-Mar-2004; DatasheetDocument: 14-Feb-2002; PackageReference: CAPPRS10-30X30; Publisher: Altium Limited; ComponentLink1Description: Manufacturer Link; ComponentLink1URL: http://www.vishay.com/; ComponentLink2Description: Datasheet; ComponentLink2URL: http://www.vishay.com/docs/25139/eyh.pdf; Value: 120uF
footprint CAPPRS10-30X30 (Capacitor, Electrolytic, Radial, Snap-In Pins; Body 30 x 30 mm (Dia.xH typ); Pin Spacing 10 mm (typ))
simulation model CAP (Capacitor)
signal-integrity model EYH07BV312P02
pins: 1, 2
1 alternate drawing of the same symbol

## EYH07BV315P02
designator C?
Aluminum Electrolytic Capacitor, Power Capacitor Style EYH, Snap-in 6mm Solder Pins: 150uF, 450V; PCB_Layout: Complies with Manufacturer's Recommendation.; DrillSize: Nominal, Complies with Manufacturer's Recommendation.; Published: 19-Mar-2004; DatasheetDocument: 14-Feb-2002; PackageReference: CAPPRS10-30X30; Publisher: Altium Limited; ComponentLink1Description: Manufacturer Link; ComponentLink1URL: http://www.vishay.com/; ComponentLink2Description: Datasheet; ComponentLink2URL: http://www.vishay.com/docs/25139/eyh.pdf; Value: 150uF
footprint CAPPRS10-30X30 (Capacitor, Electrolytic, Radial, Snap-In Pins; Body 30 x 30 mm (Dia.xH typ); Pin Spacing 10 mm (typ))
simulation model CAP (Capacitor)
signal-integrity model EYH07BV315P02
pins: 1, 2
1 alternate drawing of the same symbol

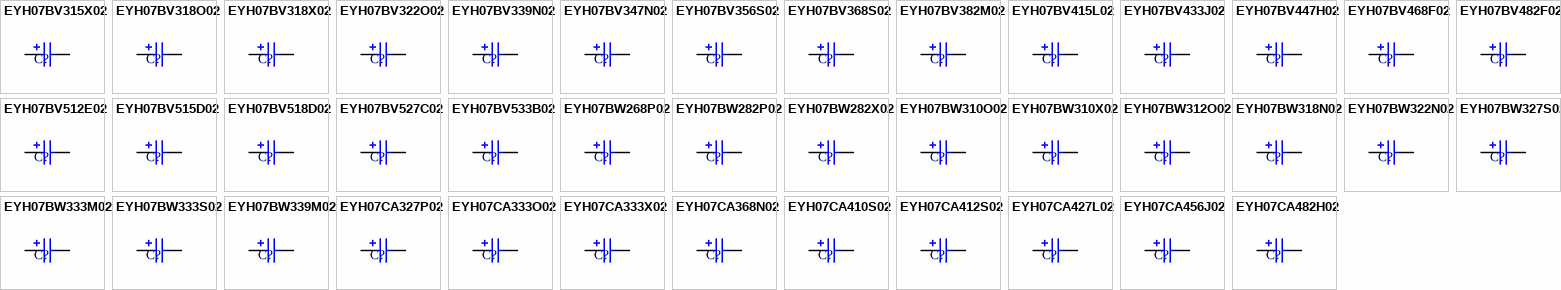
[diagram p7: symbols EYH07BV315X02 to EYH07CA482H02]

## EYH07BV315X02
designator C?
Aluminum Electrolytic Capacitor, Power Capacitor Style EYH, Snap-in 6mm Solder Pins: 150uF, 400V; PCB_Layout: Complies with Manufacturer's Recommendation.; DrillSize: Nominal, Complies with Manufacturer's Recommendation.; Published: 19-Mar-2004; DatasheetDocument: 14-Feb-2002; PackageReference: CAPPRS10-30X30; Publisher: Altium Limited; ComponentLink1Description: Manufacturer Link; ComponentLink1URL: http://www.vishay.com/; ComponentLink2Description: Datasheet; ComponentLink2URL: http://www.vishay.com/docs/25139/eyh.pdf; Value: 150uF
footprint CAPPRS10-30X30 (Capacitor, Electrolytic, Radial, Snap-In Pins; Body 30 x 30 mm (Dia.xH typ); Pin Spacing 10 mm (typ))
simulation model CAP (Capacitor)
signal-integrity model EYH07BV315X02
pins: 1, 2
1 alternate drawing of the same symbol

## EYH07BV318O02
designator C?
Aluminum Electrolytic Capacitor, Power Capacitor Style EYH, Snap-in 6mm Solder Pins: 180uF, 350V; PCB_Layout: Complies with Manufacturer's Recommendation.; DrillSize: Nominal, Complies with Manufacturer's Recommendation.; Published: 19-Mar-2004; DatasheetDocument: 14-Feb-2002; PackageReference: CAPPRS10-30X30; Publisher: Altium Limited; ComponentLink1Description: Manufacturer Link; ComponentLink1URL: http://www.vishay.com/; ComponentLink2Description: Datasheet; ComponentLink2URL: http://www.vishay.com/docs/25139/eyh.pdf; Value: 180uF
footprint CAPPRS10-30X30 (Capacitor, Electrolytic, Radial, Snap-In Pins; Body 30 x 30 mm (Dia.xH typ); Pin Spacing 10 mm (typ))
simulation model CAP (Capacitor)
signal-integrity model EYH07BV318O02
pins: 1, 2
1 alternate drawing of the same symbol

## EYH07BV318X02
designator C?
Aluminum Electrolytic Capacitor, Power Capacitor Style EYH, Snap-in 6mm Solder Pins: 180uF, 400V; PCB_Layout: Complies with Manufacturer's Recommendation.; DrillSize: Nominal, Complies with Manufacturer's Recommendation.; Published: 19-Mar-2004; DatasheetDocument: 14-Feb-2002; PackageReference: CAPPRS10-30X30; Publisher: Altium Limited; ComponentLink1Description: Manufacturer Link; ComponentLink1URL: http://www.vishay.com/; ComponentLink2Description: Datasheet; ComponentLink2URL: http://www.vishay.com/docs/25139/eyh.pdf; Value: 180uF
footprint CAPPRS10-30X30 (Capacitor, Electrolytic, Radial, Snap-In Pins; Body 30 x 30 mm (Dia.xH typ); Pin Spacing 10 mm (typ))
simulation model CAP (Capacitor)
signal-integrity model EYH07BV318X02
pins: 1, 2
1 alternate drawing of the same symbol

## EYH07BV322O02
designator C?
Aluminum Electrolytic Capacitor, Power Capacitor Style EYH, Snap-in 6mm Solder Pins: 220uF, 350V; PCB_Layout: Complies with Manufacturer's Recommendation.; DrillSize: Nominal, Complies with Manufacturer's Recommendation.; Published: 19-Mar-2004; DatasheetDocument: 14-Feb-2002; PackageReference: CAPPRS10-30X30; Publisher: Altium Limited; ComponentLink1Description: Manufacturer Link; ComponentLink1URL: http://www.vishay.com/; ComponentLink2Description: Datasheet; ComponentLink2URL: http://www.vishay.com/docs/25139/eyh.pdf; Value: 220uF
footprint CAPPRS10-30X30 (Capacitor, Electrolytic, Radial, Snap-In Pins; Body 30 x 30 mm (Dia.xH typ); Pin Spacing 10 mm (typ))
simulation model CAP (Capacitor)
signal-integrity model EYH07BV322O02
pins: 1, 2
1 alternate drawing of the same symbol

## EYH07BV339N02
designator C?
Aluminum Electrolytic Capacitor, Power Capacitor Style EYH, Snap-in 6mm Solder Pins: 390uF, 250V; PCB_Layout: Complies with Manufacturer's Recommendation.; DrillSize: Nominal, Complies with Manufacturer's Recommendation.; Published: 19-Mar-2004; DatasheetDocument: 14-Feb-2002; PackageReference: CAPPRS10-30X30; Publisher: Altium Limited; ComponentLink1Description: Manufacturer Link; ComponentLink1URL: http://www.vishay.com/; ComponentLink2Description: Datasheet; ComponentLink2URL: http://www.vishay.com/docs/25139/eyh.pdf; Value: 390uF
footprint CAPPRS10-30X30 (Capacitor, Electrolytic, Radial, Snap-In Pins; Body 30 x 30 mm (Dia.xH typ); Pin Spacing 10 mm (typ))
simulation model CAP (Capacitor)
signal-integrity model EYH07BV339N02
pins: 1, 2
1 alternate drawing of the same symbol

## EYH07BV347N02
designator C?
Aluminum Electrolytic Capacitor, Power Capacitor Style EYH, Snap-in 6mm Solder Pins: 470uF, 250V; PCB_Layout: Complies with Manufacturer's Recommendation.; DrillSize: Nominal, Complies with Manufacturer's Recommendation.; Published: 19-Mar-2004; DatasheetDocument: 14-Feb-2002; PackageReference: CAPPRS10-30X30; Publisher: Altium Limited; ComponentLink1Description: Manufacturer Link; ComponentLink1URL: http://www.vishay.com/; ComponentLink2Description: Datasheet; ComponentLink2URL: http://www.vishay.com/docs/25139/eyh.pdf; Value: 470uF
footprint CAPPRS10-30X30 (Capacitor, Electrolytic, Radial, Snap-In Pins; Body 30 x 30 mm (Dia.xH typ); Pin Spacing 10 mm (typ))
simulation model CAP (Capacitor)
signal-integrity model EYH07BV347N02
pins: 1, 2
1 alternate drawing of the same symbol

## EYH07BV356S02
designator C?
Aluminum Electrolytic Capacitor, Power Capacitor Style EYH, Snap-in 6mm Solder Pins: 560uF, 200V; PCB_Layout: Complies with Manufacturer's Recommendation.; DrillSize: Nominal, Complies with Manufacturer's Recommendation.; Published: 19-Mar-2004; DatasheetDocument: 14-Feb-2002; PackageReference: CAPPRS10-30X30; Publisher: Altium Limited; ComponentLink1Description: Manufacturer Link; ComponentLink1URL: http://www.vishay.com/; ComponentLink2Description: Datasheet; ComponentLink2URL: http://www.vishay.com/docs/25139/eyh.pdf; Value: 560uF
footprint CAPPRS10-30X30 (Capacitor, Electrolytic, Radial, Snap-In Pins; Body 30 x 30 mm (Dia.xH typ); Pin Spacing 10 mm (typ))
simulation model CAP (Capacitor)
signal-integrity model EYH07BV356S02
pins: 1, 2
1 alternate drawing of the same symbol

## EYH07BV368S02
designator C?
Aluminum Electrolytic Capacitor, Power Capacitor Style EYH, Snap-in 6mm Solder Pins: 680uF, 200V; PCB_Layout: Complies with Manufacturer's Recommendation.; DrillSize: Nominal, Complies with Manufacturer's Recommendation.; Published: 19-Mar-2004; DatasheetDocument: 14-Feb-2002; PackageReference: CAPPRS10-30X30; Publisher: Altium Limited; ComponentLink1Description: Manufacturer Link; ComponentLink1URL: http://www.vishay.com/; ComponentLink2Description: Datasheet; ComponentLink2URL: http://www.vishay.com/docs/25139/eyh.pdf; Value: 680uF
footprint CAPPRS10-30X30 (Capacitor, Electrolytic, Radial, Snap-In Pins; Body 30 x 30 mm (Dia.xH typ); Pin Spacing 10 mm (typ))
simulation model CAP (Capacitor)
signal-integrity model EYH07BV368S02
pins: 1, 2
1 alternate drawing of the same symbol

## EYH07BV382M02
designator C?
Aluminum Electrolytic Capacitor, Power Capacitor Style EYH, Snap-in 6mm Solder Pins: 820uF, 160V; PCB_Layout: Complies with Manufacturer's Recommendation.; DrillSize: Nominal, Complies with Manufacturer's Recommendation.; Published: 19-Mar-2004; DatasheetDocument: 14-Feb-2002; PackageReference: CAPPRS10-30X30; Publisher: Altium Limited; ComponentLink1Description: Manufacturer Link; ComponentLink1URL: http://www.vishay.com/; ComponentLink2Description: Datasheet; ComponentLink2URL: http://www.vishay.com/docs/25139/eyh.pdf; Value: 820uF
footprint CAPPRS10-30X30 (Capacitor, Electrolytic, Radial, Snap-In Pins; Body 30 x 30 mm (Dia.xH typ); Pin Spacing 10 mm (typ))
simulation model CAP (Capacitor)
signal-integrity model EYH07BV382M02
pins: 1, 2
1 alternate drawing of the same symbol

## EYH07BV415L02
designator C?
Aluminum Electrolytic Capacitor, Power Capacitor Style EYH, Snap-in 6mm Solder Pins: 1500uF, 100V; PCB_Layout: Complies with Manufacturer's Recommendation.; DrillSize: Nominal, Complies with Manufacturer's Recommendation.; Published: 19-Mar-2004; DatasheetDocument: 14-Feb-2002; PackageReference: CAPPRS10-30X30; Publisher: Altium Limited; ComponentLink1Description: Manufacturer Link; ComponentLink1URL: http://www.vishay.com/; ComponentLink2Description: Datasheet; ComponentLink2URL: http://www.vishay.com/docs/25139/eyh.pdf; Value: 1500uF
footprint CAPPRS10-30X30 (Capacitor, Electrolytic, Radial, Snap-In Pins; Body 30 x 30 mm (Dia.xH typ); Pin Spacing 10 mm (typ))
simulation model CAP (Capacitor)
signal-integrity model EYH07BV415L02
pins: 1, 2
1 alternate drawing of the same symbol

## EYH07BV433J02
designator C?
Aluminum Electrolytic Capacitor, Power Capacitor Style EYH, Snap-in 6mm Solder Pins: 3300uF, 63V; PCB_Layout: Complies with Manufacturer's Recommendation.; DrillSize: Nominal, Complies with Manufacturer's Recommendation.; Published: 19-Mar-2004; DatasheetDocument: 14-Feb-2002; PackageReference: CAPPRS10-30X30; Publisher: Altium Limited; ComponentLink1Description: Manufacturer Link; ComponentLink1URL: http://www.vishay.com/; ComponentLink2Description: Datasheet; ComponentLink2URL: http://www.vishay.com/docs/25139/eyh.pdf; Value: 3300uF
footprint CAPPRS10-30X30 (Capacitor, Electrolytic, Radial, Snap-In Pins; Body 30 x 30 mm (Dia.xH typ); Pin Spacing 10 mm (typ))
simulation model CAP (Capacitor)
signal-integrity model EYH07BV433J02
pins: 1, 2
1 alternate drawing of the same symbol

## EYH07BV447H02
designator C?
Aluminum Electrolytic Capacitor, Power Capacitor Style EYH, Snap-in 6mm Solder Pins: 4700uF, 50V; PCB_Layout: Complies with Manufacturer's Recommendation.; DrillSize: Nominal, Complies with Manufacturer's Recommendation.; Published: 19-Mar-2004; DatasheetDocument: 14-Feb-2002; PackageReference: CAPPRS10-30X30; Publisher: Altium Limited; ComponentLink1Description: Manufacturer Link; ComponentLink1URL: http://www.vishay.com/; ComponentLink2Description: Datasheet; ComponentLink2URL: http://www.vishay.com/docs/25139/eyh.pdf; Value: 4700uF
footprint CAPPRS10-30X30 (Capacitor, Electrolytic, Radial, Snap-In Pins; Body 30 x 30 mm (Dia.xH typ); Pin Spacing 10 mm (typ))
simulation model CAP (Capacitor)
signal-integrity model EYH07BV447H02
pins: 1, 2
1 alternate drawing of the same symbol

## EYH07BV468F02
designator C?
Aluminum Electrolytic Capacitor, Power Capacitor Style EYH, Snap-in 6mm Solder Pins: 6800uF, 35V; PCB_Layout: Complies with Manufacturer's Recommendation.; DrillSize: Nominal, Complies with Manufacturer's Recommendation.; Published: 19-Mar-2004; DatasheetDocument: 14-Feb-2002; PackageReference: CAPPRS10-30X30; Publisher: Altium Limited; ComponentLink1Description: Manufacturer Link; ComponentLink1URL: http://www.vishay.com/; ComponentLink2Description: Datasheet; ComponentLink2URL: http://www.vishay.com/docs/25139/eyh.pdf; Value: 6800uF
footprint CAPPRS10-30X30 (Capacitor, Electrolytic, Radial, Snap-In Pins; Body 30 x 30 mm (Dia.xH typ); Pin Spacing 10 mm (typ))
simulation model CAP (Capacitor)
signal-integrity model EYH07BV468F02
pins: 1, 2
1 alternate drawing of the same symbol

## EYH07BV482F02
designator C?
Aluminum Electrolytic Capacitor, Power Capacitor Style EYH, Snap-in 6mm Solder Pins: 8200uF, 35V; PCB_Layout: Complies with Manufacturer's Recommendation.; DrillSize: Nominal, Complies with Manufacturer's Recommendation.; Published: 19-Mar-2004; DatasheetDocument: 14-Feb-2002; PackageReference: CAPPRS10-30X30; Publisher: Altium Limited; ComponentLink1Description: Manufacturer Link; ComponentLink1URL: http://www.vishay.com/; ComponentLink2Description: Datasheet; ComponentLink2URL: http://www.vishay.com/docs/25139/eyh.pdf; Value: 8200uF
footprint CAPPRS10-30X30 (Capacitor, Electrolytic, Radial, Snap-In Pins; Body 30 x 30 mm (Dia.xH typ); Pin Spacing 10 mm (typ))
simulation model CAP (Capacitor)
signal-integrity model EYH07BV482F02
pins: 1, 2
1 alternate drawing of the same symbol

## EYH07BV512E02
designator C?
Aluminum Electrolytic Capacitor, Power Capacitor Style EYH, Snap-in 6mm Solder Pins: 12000uF, 25V; PCB_Layout: Complies with Manufacturer's Recommendation.; DrillSize: Nominal, Complies with Manufacturer's Recommendation.; Published: 19-Mar-2004; DatasheetDocument: 14-Feb-2002; PackageReference: CAPPRS10-30X30; Publisher: Altium Limited; ComponentLink1Description: Manufacturer Link; ComponentLink1URL: http://www.vishay.com/; ComponentLink2Description: Datasheet; ComponentLink2URL: http://www.vishay.com/docs/25139/eyh.pdf; Value: 12000uF
footprint CAPPRS10-30X30 (Capacitor, Electrolytic, Radial, Snap-In Pins; Body 30 x 30 mm (Dia.xH typ); Pin Spacing 10 mm (typ))
simulation model CAP (Capacitor)
signal-integrity model EYH07BV512E02
pins: 1, 2
1 alternate drawing of the same symbol

## EYH07BV515D02
designator C?
Aluminum Electrolytic Capacitor, Power Capacitor Style EYH, Snap-in 6mm Solder Pins: 15000uF, 16V; PCB_Layout: Complies with Manufacturer's Recommendation.; DrillSize: Nominal, Complies with Manufacturer's Recommendation.; Published: 19-Mar-2004; DatasheetDocument: 14-Feb-2002; PackageReference: CAPPRS10-30X30; Publisher: Altium Limited; ComponentLink1Description: Manufacturer Link; ComponentLink1URL: http://www.vishay.com/; ComponentLink2Description: Datasheet; ComponentLink2URL: http://www.vishay.com/docs/25139/eyh.pdf; Value: 15000uF
footprint CAPPRS10-30X30 (Capacitor, Electrolytic, Radial, Snap-In Pins; Body 30 x 30 mm (Dia.xH typ); Pin Spacing 10 mm (typ))
simulation model CAP (Capacitor)
signal-integrity model EYH07BV515D02
pins: 1, 2
1 alternate drawing of the same symbol

## EYH07BV518D02
designator C?
Aluminum Electrolytic Capacitor, Power Capacitor Style EYH, Snap-in 6mm Solder Pins: 18000uF, 16V; PCB_Layout: Complies with Manufacturer's Recommendation.; DrillSize: Nominal, Complies with Manufacturer's Recommendation.; Published: 19-Mar-2004; DatasheetDocument: 14-Feb-2002; PackageReference: CAPPRS10-30X30; Publisher: Altium Limited; ComponentLink1Description: Manufacturer Link; ComponentLink1URL: http://www.vishay.com/; ComponentLink2Description: Datasheet; ComponentLink2URL: http://www.vishay.com/docs/25139/eyh.pdf; Value: 18000uF
footprint CAPPRS10-30X30 (Capacitor, Electrolytic, Radial, Snap-In Pins; Body 30 x 30 mm (Dia.xH typ); Pin Spacing 10 mm (typ))
simulation model CAP (Capacitor)
signal-integrity model EYH07BV518D02
pins: 1, 2
1 alternate drawing of the same symbol

## EYH07BV527C02
designator C?
Aluminum Electrolytic Capacitor, Power Capacitor Style EYH, Snap-in 6mm Solder Pins: 27000uF, 10V; PCB_Layout: Complies with Manufacturer's Recommendation.; DrillSize: Nominal, Complies with Manufacturer's Recommendation.; Published: 19-Mar-2004; DatasheetDocument: 14-Feb-2002; PackageReference: CAPPRS10-30X30; Publisher: Altium Limited; ComponentLink1Description: Manufacturer Link; ComponentLink1URL: http://www.vishay.com/; ComponentLink2Description: Datasheet; ComponentLink2URL: http://www.vishay.com/docs/25139/eyh.pdf; Value: 27000uF
footprint CAPPRS10-30X30 (Capacitor, Electrolytic, Radial, Snap-In Pins; Body 30 x 30 mm (Dia.xH typ); Pin Spacing 10 mm (typ))
simulation model CAP (Capacitor)
signal-integrity model EYH07BV527C02
pins: 1, 2
1 alternate drawing of the same symbol

## EYH07BV533B02
designator C?
Aluminum Electrolytic Capacitor, Power Capacitor Style EYH, Snap-in 6mm Solder Pins: 33000uF, 6.3V; PCB_Layout: Complies with Manufacturer's Recommendation.; DrillSize: Nominal, Complies with Manufacturer's Recommendation.; Published: 19-Mar-2004; DatasheetDocument: 14-Feb-2002; PackageReference: CAPPRS10-30X30; Publisher: Altium Limited; ComponentLink1Description: Manufacturer Link; ComponentLink1URL: http://www.vishay.com/; ComponentLink2Description: Datasheet; ComponentLink2URL: http://www.vishay.com/docs/25139/eyh.pdf; Value: 33000uF
footprint CAPPRS10-30X30 (Capacitor, Electrolytic, Radial, Snap-In Pins; Body 30 x 30 mm (Dia.xH typ); Pin Spacing 10 mm (typ))
simulation model CAP (Capacitor)
signal-integrity model EYH07BV533B02
pins: 1, 2
1 alternate drawing of the same symbol

## EYH07BW268P02
designator C?
Aluminum Electrolytic Capacitor, Power Capacitor Style EYH, Snap-in 6mm Solder Pins: 68uF, 450V; PCB_Layout: Complies with Manufacturer's Recommendation.; DrillSize: Nominal, Complies with Manufacturer's Recommendation.; Published: 19-Mar-2004; DatasheetDocument: 14-Feb-2002; PackageReference: CAPPRS10-30X20; Publisher: Altium Limited; ComponentLink1Description: Manufacturer Link; ComponentLink1URL: http://www.vishay.com/; ComponentLink2Description: Datasheet; ComponentLink2URL: http://www.vishay.com/docs/25139/eyh.pdf; Value: 68uF
footprint CAPPRS10-30X20 (Capacitor, Electrolytic, Radial, Snap-In Pins; Body 30 x 20 mm (Dia.xH typ); Pin Spacing 10 mm (typ))
simulation model CAP (Capacitor)
signal-integrity model EYH07BW268P02
pins: 1, 2
1 alternate drawing of the same symbol